# Altium footprint library TFM_Footprints.PcbLib: 24 footprints (part 2 of 2)
Each footprint in its own frame and in the unit in brackets; x right, y up, seen from the top. Pads: shape width x height; smd on the part's side, far side on the other; paste and mask are expansions set on the pad; w line width, h text height; cw(c..) or ccw(c..) is an arc to the next point about the centre after c.
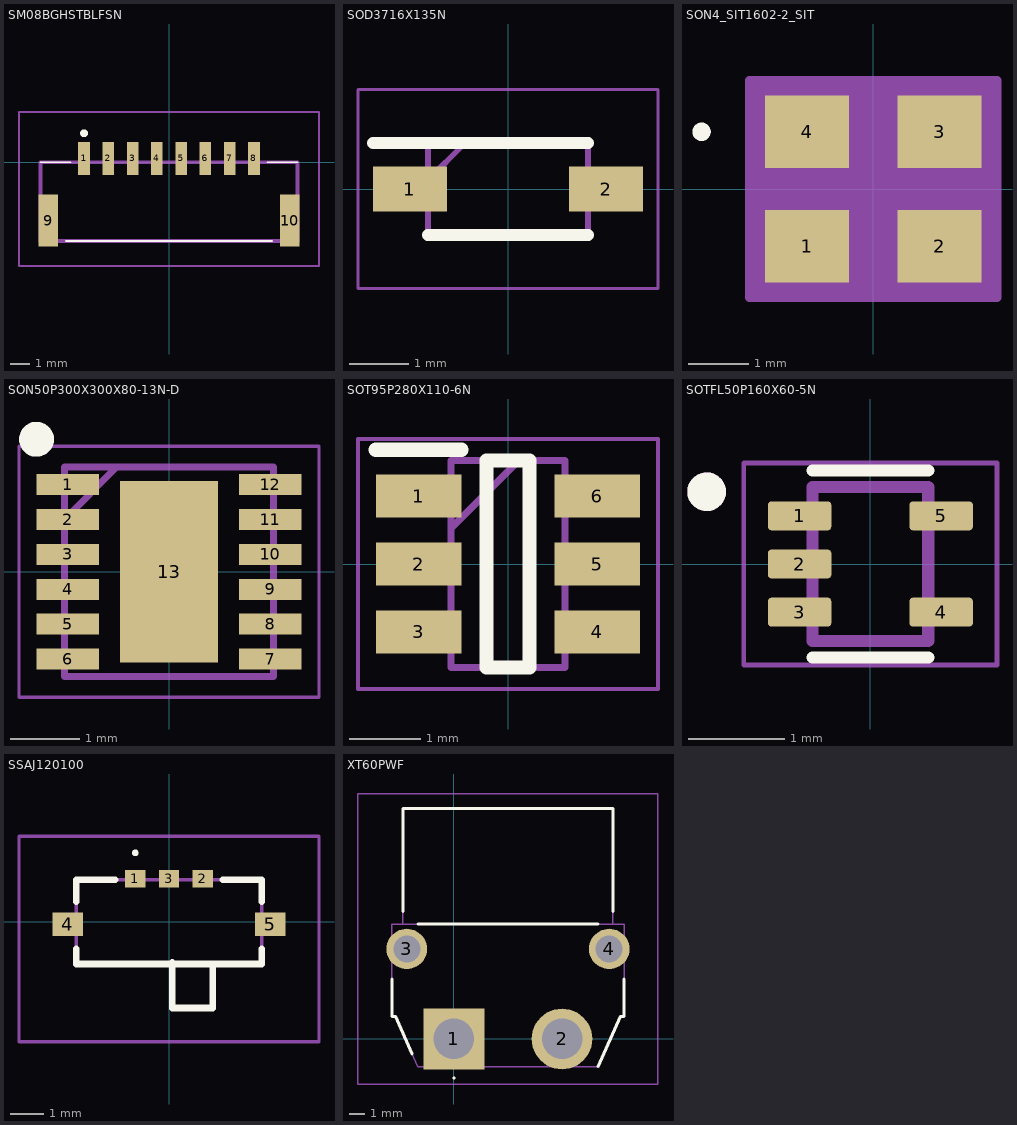
[diagram p1: the footprints below, top view; thin cyan lines are the x and y axes]

## SM08BGHSTBLFSN [mm]
pads (10):
  rect 0.6x1.7 smd: 1(-4.375,0.2) 2(-3.125,0.2) 3(-1.875,0.2) 4(-0.625,0.2) 5(0.625,0.2) 6(1.875,0.2) 7(3.125,0.2) 8(4.375,0.2)
  rect 1x2.7 smd: 9(-6.225,-3) 10(6.225,-3)
Top Overlay:
  lines w0.1: -6.625,0 -5.064,0 ; -5.3,-4.05 5.3,-4.05 ; 5.064,0 6.625,0
  lines w0.2: -4.475,1.496 cw(c-4.375,1.496) -4.275,1.496 cw(c-4.375,1.496) -4.475,1.496
Mechanical 13:
  lines w0.2: -6.625,-4.05 6.625,-4.05 6.625,0 -6.625,0 -6.625,-4.05
Mechanical 15:
  lines w0.1: -7.725,-5.35 7.725,-5.35 7.725,2.596 -7.725,2.596 -7.725,-5.35
3D body "SM08B-GHS-TB_LF__SN_.stp": height 4.15, standoff 0, extent -6.625,-4.25 6.625,0.99

## SOD3716X135N [mm]
pads (2):
  rect 1.25x0.75 smd: 1(-1.65,0) 2(1.65,0)
Top Overlay:
  lines w0.2: -2.275,0.775 1.35,0.775 ; -1.35,-0.775 1.35,-0.775
Mechanical 13:
  lines w0.1: -1.35,0.15 -0.725,0.775 ; -1.35,-0.775 -1.35,0.775 1.35,0.775 1.35,-0.775 -1.35,-0.775
Mechanical 15:
  lines w0.05: -2.525,-1.675 -2.525,1.675 2.525,1.675 2.525,-1.675 -2.525,-1.675
3D body "BZT52C15-E3-08.stp": height 1.35, standoff 0, extent -1.85,-0.775 1.85,0.775

## SON4_SIT1602-2_SIT [mm]
pads (4):
  rect 1.4x1.2 smd paste-0.6 mask+0: 1(-1.1,-0.95) 2(1.1,-0.95) 3(1.1,0.95) 4(-1.1,0.95)
Top Overlay:
  circle w0.152: c-2.852,0.95 r0.076
Mechanical 13:
  circle w0: c-0.4,0.95 r0.076
  lines w0: -0.305,1.25 ccw(c0,1.25) 0.305,1.25
  lines w0.025: -1.6,-1.25 -1.6,1.25 1.6,1.25 1.6,-1.25 -1.6,-1.25
Mechanical 15:
  region: -1.854,-1.804 -2.054,-1.804 -2.054,1.804 -1.854,1.804 1.854,1.804 2.054,1.804 2.054,-1.804 1.854,-1.804
  lines w0.152: -2.054,-1.804 -1.854,-1.804 1.854,-1.804 2.054,-1.804 2.054,1.804 1.854,1.804 -1.854,1.804 -2.054,1.804 -2.054,-1.804
3D body "SON4_SIT1602-2_SIT.step": height 0.8, standoff 0, extent -1.6,-1.25 1.6,1.25

## SON50P300X300X80-13N-D [mm]
pads (13):
  rect 0.9x0.3 smd: 1(-1.45,1.25) 2(-1.45,0.75) 3(-1.45,0.25) 4(-1.45,-0.25) 5(-1.45,-0.75) 6(-1.45,-1.25) 7(1.45,-1.25) 8(1.45,-0.75) 9(1.45,-0.25) 10(1.45,0.25) 11(1.45,0.75) 12(1.45,1.25)
  rect 1.4x2.6 smd: 13(0,0)
Top Overlay:
  circle w0.25: c-1.9,1.9 r0.125
Mechanical 13:
  lines w0.1: -1.5,0.75 -0.75,1.5 ; -1.5,-1.5 1.5,-1.5 1.5,1.5 -1.5,1.5 -1.5,-1.5
Mechanical 15:
  lines w0.05: -2.15,-1.8 2.15,-1.8 2.15,1.8 -2.15,1.8 -2.15,-1.8
3D body "LMR51450FNDRRR.stp": height 0.77, standoff -0.03, extent -1.5,-1.5 1.5,1.5

## SOT95P280X110-6N [mm]
pads (6):
  rect 1.2x0.6 smd: 1(-1.25,0.95) 2(-1.25,0) 3(-1.25,-0.95) 4(1.25,-0.95) 5(1.25,0) 6(1.25,0.95)
Top Overlay:
  lines w0.2: -1.85,1.6 -0.65,1.6 ; -0.3,-1.45 0.3,-1.45 0.3,1.45 -0.3,1.45 -0.3,-1.45
Mechanical 13:
  lines w0.1: -0.8,0.5 0.15,1.45 ; -0.8,-1.45 0.8,-1.45 0.8,1.45 -0.8,1.45 -0.8,-1.45
Mechanical 15:
  lines w0.05: -2.1,-1.75 2.1,-1.75 2.1,1.75 -2.1,1.75 -2.1,-1.75
3D body "FDC5614P.stp": height 1.1, standoff 0, extent -1.4,-1.45 1.4,1.45

## SOTFL50P160X60-5N [mm]
pads (5):
  rrect25% 0.66x0.3 smd: 1(-0.735,0.5) 2(-0.735,0) 3(-0.735,-0.5) 4(0.735,-0.5) 5(0.735,0.5)
Top Overlay:
  circle w0.2: c-1.7,0.75 r0.1
  lines w0.127: -0.6,-0.97 0.6,-0.97 ; -0.6,0.97 0.6,0.97
Mechanical 13:
  circle w0.2: c-1.7,0.75 r0.1
  lines w0.127: -0.6,-0.8 0.6,-0.8 0.6,0.8 -0.6,0.8 -0.6,-0.8
Mechanical 15:
  lines w0.05: -1.315,-1.05 1.315,-1.05 1.315,1.05 -1.315,1.05 -1.315,-1.05
3D body "TPD2E2U06DRLR.STEP": height 0.6, standoff 0, extent -0.775,-0.8 0.825,0.8

## SSAJ120100 [mm]
pads (5):
  rect 0.6x0.51 smd: 1(-1,1.285) 2(1,1.285) 3(0,1.285)
  rect 0.9x0.7 smd: 4(-3,-0.07) 5(3,-0.07)
Top Overlay:
  lines w0.1: -1,2 cw(c-1,2.05) -1,2.1 cw(c-1,2.05) -1,2
  lines w0.2: -2.75,-0.8 -2.75,-1.25 2.75,-1.25 2.75,-0.8 ; -2.75,0.6 -2.75,1.25 -1.6,1.25 ; 0.1,-1.2 0.1,-2.55 1.3,-2.55 1.3,-1.25 ; 1.6,1.25 2.75,1.25 2.75,0.6
Mechanical 13:
  lines w0.1: 0.1,-1.25 0.1,-2.55 1.3,-2.55 1.3,-1.25 ; -2.75,-1.25 2.75,-1.25 2.75,1.25 -2.75,1.25 -2.75,-1.25
Mechanical 15:
  lines w0.1: -4.45,-3.55 4.45,-3.55 4.45,2.54 -4.45,2.54 -4.45,-3.55
3D body "SSAJ120100.stp": height 0.74, standoff 0, extent -3.25,-2.492 3.25,1.483

## XT60PWF [mm]
pads (4):
  rect 4.05x4.05 hole 2.7: 1(0,0)
  round 4.05 hole 2.7: 2(7.2,0)
  round 2.7 hole 1.8: 3(-3.15,6) 4(10.35,6)
Top Overlay:
  lines w0.1: 0,-2.65 ccw(c0,-2.6) 0,-2.55 ccw(c0,-2.6) 0,-2.65
  lines w0.2: -4.15,4 -4.15,1.5 -3.9,1.5 -2.8,-1 ; -3.4,8.5 -3.4,15.35 10.6,15.35 10.6,8.5 ; -2.4,7.65 9.6,7.65 ; 9.6,-1.85 11.1,1.5 11.35,1.5 11.35,4
Mechanical 13:
  lines w0.1: -3.4,7.65 -3.4,15.35 10.6,15.35 10.6,7.65 ; -4.15,1.5 -3.9,1.5 -2.4,-1.85 4.6,-1.85 9.6,-1.85 11.1,1.5 11.35,1.5 11.35,3.5 11.35,5 11.35,7.65 -4.15,7.65 -4.15,1.5
Mechanical 15:
  lines w0.1: -6.4,-3.025 13.6,-3.025 13.6,16.35 -6.4,16.35 -6.4,-3.025
3D body "XT60PW-F.stp": height 8.37, standoff -2.58, extent -4.15,-1.94 11.35,15.26